# Altium footprint library SnapEDApcb.PcbLib: 1 footprints
Each footprint in its own frame and in the unit in brackets; x right, y up, seen from the top. Pads: shape width x height; smd on the part's side, far side on the other; paste and mask are expansions set on the pad; w line width, h text height; cw(c..) or ccw(c..) is an arc to the next point about the centre after c.
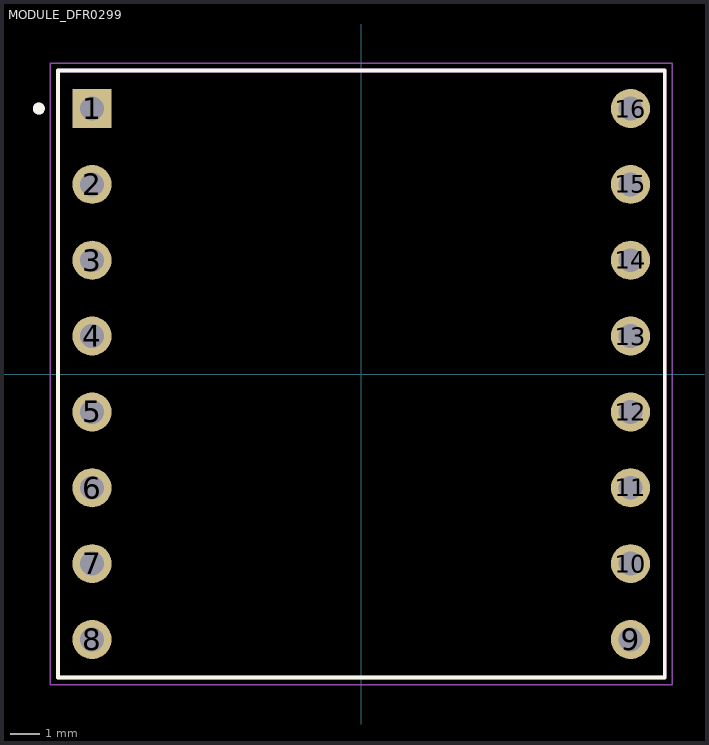
[diagram p0: the footprint, top view; thin cyan lines are the x and y axes]

## MODULE_DFR0299 [mil]
pads (16):
  rect 51.5x51.5 hole 31.5: 1(-355,350)
  round 51.5 hole 31.5: 2(-355,250) 3(-355,150) 4(-355,50) 5(-355,-50) 6(-355,-150) 7(-355,-250) 8(-355,-350) 9(355,-350) 10(355,-250) 11(355,-150) 12(355,-50) 13(355,50) 14(355,150) 15(355,250) 16(355,350)
Top Overlay:
  circle w7.87: c-425.2,350 r3.94
  lines w5: -400,-400 400,-400 400,400 -400,400 -400,-400
Mechanical 13:
  circle w7.87: c-425.2,350 r3.94
  lines w5: -400,-400 -400,400 400,400 400,-400 -400,-400
Mechanical 15:
  lines w1.97: -409.84,-409.84 -409.84,409.84 409.84,409.84 409.84,-409.84 -409.84,-409.84